# Altium schematic symbol library 18-Delay_lib.SchLib: 4 symbols
Pins are listed as number, name and electrical type; pins without a type are passive.

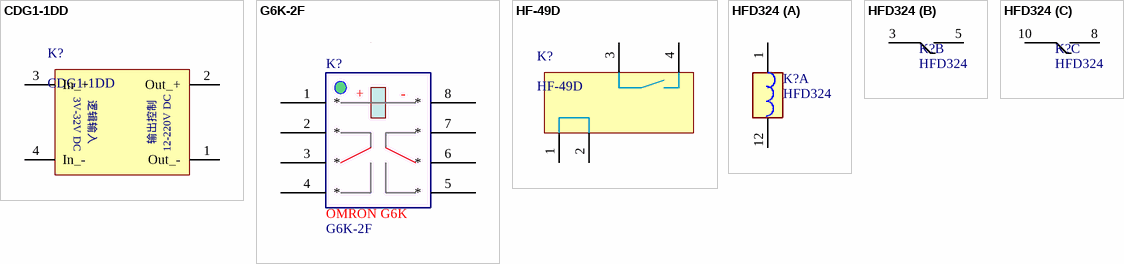
[diagram p0: symbols CDG1-1DD to HFD324]

## CDG1-1DD
designator K?
固态继电器（SSR）
footprint CDG1_1
pins: 1 Out_-, 2 Out_+, 3 In_+, 4 In_-
text: 3V-32V DC; 逻辑输入; 输出控制; 12-220V DC

## G6K-2F
designator K?
欧姆龙贴片式继电器
footprint G6K-2G
pins: 1 *, 2 *, 3 *, 4 *, 5 *, 6 *, 7 *, 8 *
2 alternate drawings of the same symbol
text: +; -; OMRON G6K

## HF-49D
designator K?
宏发继电器
footprint HF49FD
pins: 1, 2, 3, 4

## HFD324
designator K?
宏发继电器
footprint HFD324
part A pins: 1, 12
part B pins: 3, 5
part C pins: 8, 10
2 alternate drawings of the same symbol